# Altium footprint library Main.PcbLib: 120 footprints (part 8 of 8)
Each footprint in its own frame and in the unit in brackets; x right, y up, seen from the top. Pads: shape width x height; smd on the part's side, far side on the other; paste and mask are expansions set on the pad; w line width, h text height; cw(c..) or ccw(c..) is an arc to the next point about the centre after c.
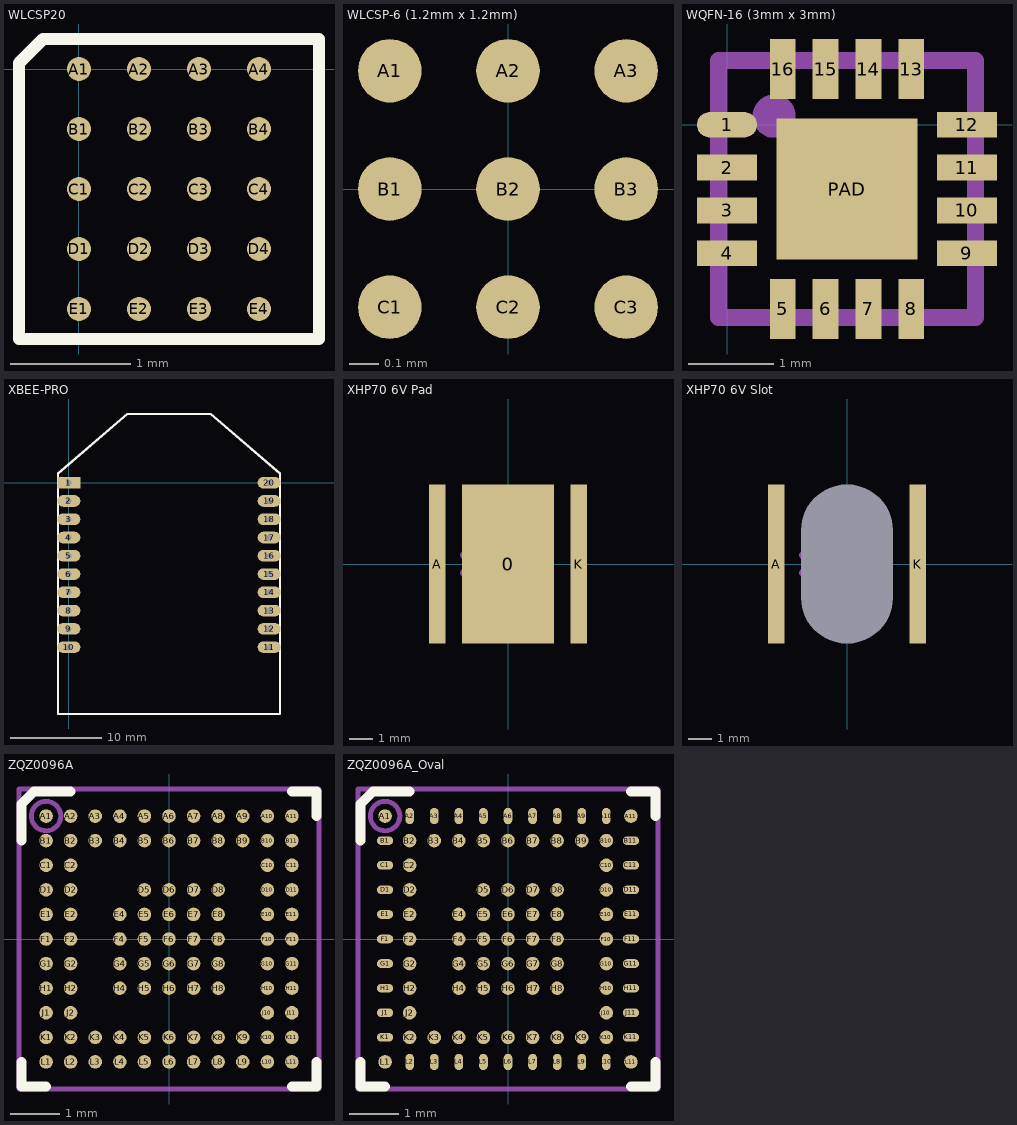
[diagram p7: the footprints below, top view; thin cyan lines are the x and y axes]

## WLCSP20 [mm]
pads (20):
  round 0.2 smd: A1(0,0) A2(0.5,0) A3(1,0) A4(1.5,0) B1(0,-0.5) B2(0.5,-0.5) B3(1,-0.5) B4(1.5,-0.5) C1(0,-1) C2(0.5,-1) C3(1,-1) C4(1.5,-1) D1(0,-1.5) D2(0.5,-1.5) D3(1,-1.5) D4(1.5,-1.5) E1(0,-2) E2(0.5,-2) E3(1,-2) E4(1.5,-2)
Top Overlay:
  lines w0.102: -0.5,-2.25 -0.5,0.05 -0.3,0.25 2,0.25 2,-2.25 -0.5,-2.25
3D body: height 0.6, standoff 0, extent -0.5,-2.25 2,0.25

## WLCSP-6 (1.2mm x 1.2mm) [mm]
pads (9):
  round 0.215 smd mask+0.05: A1(-0.4,0.4) A2(0,0.4) A3(0.4,0.4) B1(-0.4,0) B2(0,0) B3(0.4,0) C1(-0.4,-0.4) C2(0,-0.4) C3(0.4,-0.4)
3D body: height 0.6, standoff 0, extent -0.625,-0.625 0.625,0.625

## WQFN-16 (3mm x 3mm) [mm]
pads (17):
  oval 0.7x0.3 smd: 1(0,0)
  rect 0.7x0.3 smd: 2(0,-0.5) 3(0,-1) 4(0,-1.5) 9(2.8,-1.5) 10(2.8,-1) 11(2.8,-0.5) 12(2.8,0)
  rect 0.3x0.7 smd: 5(0.65,-2.15) 6(1.15,-2.15) 7(1.65,-2.15) 8(2.15,-2.15) 13(2.15,0.65) 14(1.65,0.65) 15(1.15,0.65) 16(0.65,0.65)
  rect 1.65x1.65 smd: PAD(1.4,-0.75)
Mechanical 29:
  circle w0.254: c0.55,0.1 r0.125
  lines w0.2: -0.1,-2.25 -0.1,0.75 2.9,0.75 2.9,-2.25 -0.1,-2.25
  text ".Designator" at 0.45,-1.275 h0.76
3D body: height 0.8, standoff 0, extent -0.1,-2.25 2.9,0.75

## XBEE-PRO [mil]
height 110
pads (20):
  rect 100x50 hole 25: 1(0,0)
  oval 100x50 hole 25: 2(0,-79) 3(0,-158) 4(0,-237) 5(0,-316) 6(0,-395) 7(0,-474) 8(0,-553) 9(0,-632) 10(0,-711) 11(866,-711) 12(866,-632) 13(866,-553) 14(866,-474) 15(866,-395) 16(866,-316) 17(866,-237) 18(866,-158) 19(866,-79) 20(866,0)
Top Overlay:
  lines w10: -47,-1000 913,-1000 913,39.5 614,297 252,297 -47,39.5 -47,-1000
3D body: height 110, standoff 80, extent -47,-999 913,297
3D body: height 80, standoff 0, extent -31,-746 30,39
3D body: height 80, standoff 0, extent 835.5,-746 896.5,39
3D body: height 160, standoff -160, extent -24.8,-24.95 25,24.95
3D body: height 160, standoff -160, extent -24.8,-103.95 25,-54.05
3D body: height 160, standoff -160, extent -24.8,-182.95 25,-133.05
3D body: height 160, standoff -160, extent -24.8,-261.95 25,-212.05
3D body: height 160, standoff -160, extent -24.8,-340.95 25,-291.05
3D body: height 160, standoff -160, extent -24.8,-419.95 25,-370.05
3D body: height 160, standoff -160, extent -24.8,-498.95 25,-449.05
3D body: height 160, standoff -160, extent -24.8,-656.95 25,-607.05
3D body: height 160, standoff -160, extent -24.8,-577.95 25,-528.05
3D body: height 160, standoff -160, extent -24.8,-498.95 25,-449.05
3D body: height 160, standoff -160, extent 841.2,-656.95 891,-607.05
3D body: height 160, standoff -160, extent 841.2,-577.95 891,-528.05
3D body: height 160, standoff -160, extent 841.2,-498.95 891,-449.05
3D body: height 160, standoff -160, extent 841.2,-419.95 891,-370.05
3D body: height 160, standoff -160, extent 841.2,-340.95 891,-291.05
3D body: height 160, standoff -160, extent 841.2,-261.95 891,-212.05
3D body: height 160, standoff -160, extent 841.2,-182.95 891,-133.05
3D body: height 160, standoff -160, extent 841.19,-103.95 891,-54.05
3D body: height 160, standoff -160, extent 841.2,-24.95 891,24.95
3D body: height 160, standoff -160, extent 841.2,-735.95 891,-686.05
3D body: height 160, standoff -160, extent -24.8,-735.95 25,-686.05
3D body: height 145, standoff 110, extent 123,-946 618,-452

## XHP70 6V Pad [mm]
pads (3):
  rect 3.9x6.76 smd: 0(0,0)
  rect 0.7x6.76 smd: A(-3,0) K(3,0)
Mechanical 1:
  lines w0.254: -1.925,-0.375 -1.55,0 -1.925,0.375 ; -0.375,0 0.375,0 ; 0.375,-0.375 0.375,0.375
3D body: height 0.73, standoff 0, extent -3.5,-3.5 3.5,3.5
3D body: height 4.49, standoff 0, extent -3.472,-3.493 3.5,3.493

## XHP70 6V Slot [mm]
pads (3):
  rect 0.7x6.76 smd: A(-3,0) K(3,0)
  round 1.524 hole 3.9 slot 6.76 at 90 deg unplated: ""(0,0)
Mechanical 1:
  lines w0.254: -1.925,-0.375 -1.55,0 -1.925,0.375 ; -0.375,0 0.375,0 ; 0.375,-0.375 0.375,0.375
3D body: height 4.49, standoff 0, extent -3.472,-3.493 3.5,3.493
3D body: height 0.73, standoff 0, extent -3.5,-3.5 3.5,3.5

## ZQZ0096A [mm] "BGA, 96-Leads, Body 6.0x6.0mm,  Pitch 0.50mm"
height 1
pads (96):
  round 0.275 smd: A1(-2.5,2.5) A2(-2,2.5) A3(-1.5,2.5) A4(-1,2.5) A5(-0.5,2.5) A6(0,2.5) A7(0.5,2.5) A8(1,2.5) A9(1.5,2.5) A10(2,2.5) A11(2.5,2.5) B1(-2.5,2) B2(-2,2) B3(-1.5,2) B4(-1,2) B5(-0.5,2) B6(0,2) B7(0.5,2) B8(1,2) B9(1.5,2) B10(2,2) B11(2.5,2) C1(-2.5,1.5) C2(-2,1.5) C10(2,1.5) C11(2.5,1.5) D1(-2.5,1) D2(-2,1) D5(-0.5,1) D6(0,1) D7(0.5,1) D8(1,1) D10(2,1) D11(2.5,1) E1(-2.5,0.5) E2(-2,0.5) E4(-1,0.5) E5(-0.5,0.5) E6(0,0.5) E7(0.5,0.5) E8(1,0.5) E10(2,0.5) E11(2.5,0.5) F1(-2.5,0) F2(-2,0) F4(-1,0) F5(-0.5,0) F6(0,0) F7(0.5,0) F8(1,0) F10(2,0) F11(2.5,0) G1(-2.5,-0.5) G2(-2,-0.5) G4(-1,-0.5) G5(-0.5,-0.5) G6(0,-0.5) G7(0.5,-0.5) G8(1,-0.5) G10(2,-0.5) G11(2.5,-0.5) H1(-2.5,-1) H2(-2,-1) H4(-1,-1) H5(-0.5,-1) H6(0,-1) H7(0.5,-1) H8(1,-1) H10(2,-1) H11(2.5,-1) J1(-2.5,-1.5) J2(-2,-1.5) J10(2,-1.5) J11(2.5,-1.5) K1(-2.5,-2) K2(-2,-2) K3(-1.5,-2) K4(-1,-2) K5(-0.5,-2) K6(0,-2) K7(0.5,-2) K8(1,-2) K9(1.5,-2) K10(2,-2) K11(2.5,-2) L1(-2.5,-2.5) L2(-2,-2.5) L3(-1.5,-2.5) L4(-1,-2.5) L5(-0.5,-2.5) L6(0,-2.5) L7(0.5,-2.5) L8(1,-2.5) L9(1.5,-2.5) L10(2,-2.5) L11(2.5,-2.5)
Top Overlay:
  lines w0.2: -3,-2.5 -3,-3 -2.5,-3 ; -3,2 -3,2.742 -2.742,3 -2,3 ; 2.5,-3 3,-3 3,-2.5 ; 2.5,3 3,3 3,2.5
Mechanical 1:
  circle w0.1: c-2.5,2.5 r0.3
  lines w0.1: -3.05,-3.05 3.05,-3.05 3.05,3.05 -3.05,3.05 -3.05,-3.05
Mechanical 29:
  text ".Designator" at -1.6,-0.2 h0.8
3D body: height 1.01, standoff 0.5, extent -2.805,2.195 -2.195,2.805
3D body: height 1, standoff 0, extent -3.049,-3.049 3.049,3.049

## ZQZ0096A_Oval [mm] "BGA, 96-Leads, Body 6.0x6.0mm,  Pitch 0.50mm, oval outer pads"
height 1
pads (96):
  round 0.275 smd: A1(-2.5,2.5) A11(2.5,2.5) B2(-2,2) B3(-1.5,2) B4(-1,2) B5(-0.5,2) B6(0,2) B7(0.5,2) B8(1,2) B9(1.5,2) B10(2,2) C2(-2,1.5) C10(2,1.5) D2(-2,1) D5(-0.5,1) D6(0,1) D7(0.5,1) D8(1,1) D10(2,1) E2(-2,0.5) E4(-1,0.5) E5(-0.5,0.5) E6(0,0.5) E7(0.5,0.5) E8(1,0.5) E10(2,0.5) F2(-2,0) F4(-1,0) F5(-0.5,0) F6(0,0) F7(0.5,0) F8(1,0) F10(2,0) G2(-2,-0.5) G4(-1,-0.5) G5(-0.5,-0.5) G6(0,-0.5) G7(0.5,-0.5) G8(1,-0.5) G10(2,-0.5) H2(-2,-1) H4(-1,-1) H5(-0.5,-1) H6(0,-1) H7(0.5,-1) H8(1,-1) H10(2,-1) J2(-2,-1.5) J10(2,-1.5) K2(-2,-2) K3(-1.5,-2) K4(-1,-2) K5(-0.5,-2) K6(0,-2) K7(0.5,-2) K8(1,-2) K9(1.5,-2) K10(2,-2) L1(-2.5,-2.5) L11(2.5,-2.5)
  oval 0.178x0.33 smd: A2(-2,2.5) A3(-1.5,2.5) A4(-1,2.5) A5(-0.5,2.5) A6(0,2.5) A7(0.5,2.5) A8(1,2.5) A9(1.5,2.5) A10(2,2.5) L2(-2,-2.5) L3(-1.5,-2.5) L4(-1,-2.5) L5(-0.5,-2.5) L6(0,-2.5) L7(0.5,-2.5) L8(1,-2.5) L9(1.5,-2.5) L10(2,-2.5)
  oval 0.33x0.178 smd: B1(-2.5,2) B11(2.5,2) C1(-2.5,1.5) C11(2.5,1.5) D1(-2.5,1) D11(2.5,1) E1(-2.5,0.5) E11(2.5,0.5) F1(-2.5,0) F11(2.5,0) G1(-2.5,-0.5) G11(2.5,-0.5) H1(-2.5,-1) H11(2.5,-1) J1(-2.5,-1.5) J11(2.5,-1.5) K1(-2.5,-2) K11(2.5,-2)
Top Overlay:
  lines w0.2: -3,-2.5 -3,-3 -2.5,-3 ; -3,2 -3,2.742 -2.742,3 -2,3 ; 2.5,-3 3,-3 3,-2.5 ; 2.5,3 3,3 3,2.5
Mechanical 1:
  circle w0.1: c-2.5,2.5 r0.3
  lines w0.1: -3.05,-3.05 -3.05,3.05 3.05,3.05 3.05,-3.05 -3.05,-3.05
Mechanical 29:
  text ".Designator" at -1.6,-0.2 h0.8
3D body: height 1, standoff 0, extent -3.049,-3.049 3.049,3.049
3D body: height 1.01, standoff 0.5, extent -2.805,2.195 -2.195,2.805